# Altium integrated library IR2101.IntLib: 1 symbol
Pins are listed as number, name and electrical type; pins without a type are passive.

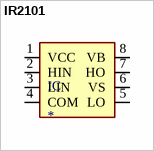
[diagram p0: symbol IR2101]

## IR2101
designator IC
Half-Bridge Gate Driver IC Non-Inverting 8-SOIC; MP: IR2101; MF: Infineon; Availability: Unavailable; Package: DIP-8 International Rectifier; SnapEDA_Link: https://www.snapeda.com/parts/IR2101/Infineon%20Technologies/view-part/41866/?ref=snap; Value: *; Price: None
footprint SO08
pins: 1 VCC (io), 2 HIN (io), 3 LIN (io), 4 COM (io), 5 LO (io), 6 VS (io), 7 HO (io), 8 VB (io)